# EAGLE library part USB_TYPE-C_MIDMOUNT (library vikc-connector)
USB Type-C connector midmount from Hirose
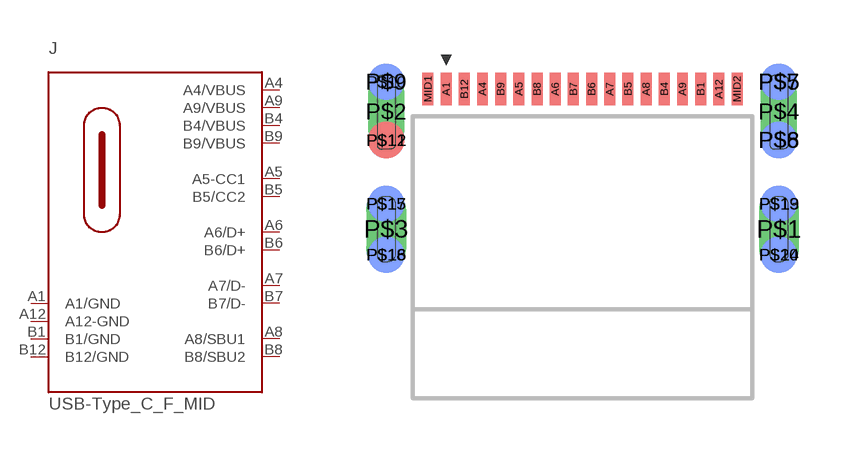
[diagram p16: symbol with the pads of USB-TYPE-C-PTH-PAD-MID_16P; footprint USB-TYPE-C-PTH-PAD-MID_16P]

Designator prefix J

## USB_TYPE-C_MIDMOUNT  [USB-TYPE-C-PTH-PAD-MID_16P]
A1  A1/GND
A4  A4/VBUS
A5  A5-CC1
A6  A6/D+
A7  A7/D-
A8  A8/SBU1
A9  A9/VBUS
A12  A12-GND
B1  B1/GND
B4  B4/VBUS
B5  B5/CC2
B6  B6/D+
B7  B7/D-
B8  B8/SBU2
B9  B9/VBUS
B12  B12/GND

## Footprint USB-TYPE-C-PTH-PAD-MID_16P (pad centres in mm)
smd 0.3 x 0.9: A1 -3.75,3.85; A4 -2.75,3.85; A5 -1.75,3.85; A6 -0.75,3.85; A7 0.75,3.85; A8 1.75,3.85; A9 2.75,3.85; A12 3.75,3.85; B1 3.25,3.85; B4 2.25,3.85; B5 1.25,3.85; B6 0.25,3.85; B7 -0.25,3.85; B8 -1.25,3.85; B9 -2.25,3.85; B12 -3.25,3.85; MID1 -4.25,3.85; MID2 4.25,3.85
drill 0.5 pad 1.1 long: P$1 5.4,0; P$3 -5.4,0
drill 0.5 pad 1 long: P$2 -5.4,3.23; P$4 5.4,3.23
smd 1 x 1: P$5 5.4,4.05; P$6 5.4,2.45; P$9 -5.4,4.05; P$12 -5.4,2.45; P$13 5.4,0.7; P$14 5.4,-0.7; P$15 -5.4,0.7; P$16 -5.4,-0.7
smd 1 x 1 bottom: P$7 5.4,4.05; P$8 5.4,2.45; P$10 -5.4,4.05; P$11 -5.4,2.45; P$17 -5.4,0.7; P$18 -5.4,-0.7; P$19 5.4,0.7; P$20 5.4,-0.7